# EAGLE library part AK5558 (library cdp)
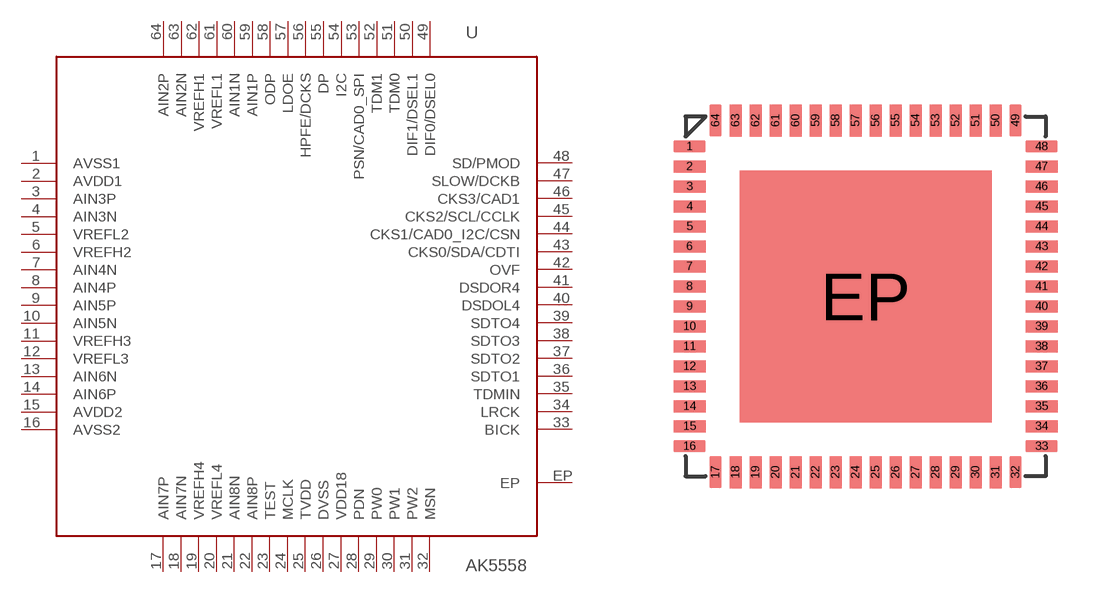
[diagram p44: symbol with the pads of QFN64_EP_AKM; footprint QFN64_EP_AKM]

Designator prefix U

## AK5558  [QFN64_EP_AKM]
1  AVSS1
2  AVDD1
3  AIN3P
4  AIN3N
5  VREFL2
6  VREFH2
7  AIN4N
8  AIN4P
9  AIN5P
10  AIN5N
11  VREFH3
12  VREFL3
13  AIN6N
14  AIN6P
15  AVDD2
16  AVSS2
17  AIN7P
18  AIN7N
19  VREFH4
20  VREFL4
21  AIN8N
22  AIN8P
23  TEST
24  MCLK
25  TVDD
26  DVSS
27  VDD18
28  PDN
29  PW0
30  PW1
31  PW2
32  MSN
33  BICK
34  LRCK
35  TDMIN
36  SDTO1
37  SDTO2
38  SDTO3
39  SDTO4
40  DSDOL4
41  DSDOR4
42  OVF
43  CKS0/SDA/CDTI
44  CKS1/CAD0_I2C/CSN
45  CKS2/SCL/CCLK
46  CKS3/CAD1
47  SLOW/DCKB
48  SD/PMOD
49  DIF0/DSEL0
50  DIF1/DSEL1
51  TDM0
52  TDM1
53  PSN/CAD0_SPI
54  I2C
55  DP
56  HPFE/DCKS
57  LDOE
58  ODP
59  AIN1P
60  AIN1N
61  VREFL1
62  VREFH1
63  AIN2N
64  AIN2P
EP  EP

## Footprint QFN64_EP_AKM (pad centres in mm)
smd 0.8 x 0.3: 1 -4.4,3.75; 2 -4.4,3.25; 3 -4.4,2.75; 4 -4.4,2.25; 5 -4.4,1.75; 6 -4.4,1.25; 7 -4.4,0.75; 8 -4.4,0.25; 9 -4.4,-0.25; 10 -4.4,-0.75; 11 -4.4,-1.25; 12 -4.4,-1.75; 13 -4.4,-2.25; 14 -4.4,-2.75; 15 -4.4,-3.25; 16 -4.4,-3.75; 33 4.4,-3.75; 34 4.4,-3.25; 35 4.4,-2.75; 36 4.4,-2.25; 37 4.4,-1.75; 38 4.4,-1.25; 39 4.4,-0.75; 40 4.4,-0.25; 41 4.4,0.25; 42 4.4,0.75; 43 4.4,1.25; 44 4.4,1.75; 45 4.4,2.25; 46 4.4,2.75; 47 4.4,3.25; 48 4.4,3.75
smd 0.3 x 0.8: 17 -3.75,-4.4; 18 -3.25,-4.4; 19 -2.75,-4.4; 20 -2.25,-4.4; 21 -1.75,-4.4; 22 -1.25,-4.4; 23 -0.75,-4.4; 24 -0.25,-4.4; 25 0.25,-4.4; 26 0.75,-4.4; 27 1.25,-4.4; 28 1.75,-4.4; 29 2.25,-4.4; 30 2.75,-4.4; 31 3.25,-4.4; 32 3.75,-4.4; 49 3.75,4.4; 50 3.25,4.4; 51 2.75,4.4; 52 2.25,4.4; 53 1.75,4.4; 54 1.25,4.4; 55 0.75,4.4; 56 0.25,4.4; 57 -0.25,4.4; 58 -0.75,4.4; 59 -1.25,4.4; 60 -1.75,4.4; 61 -2.25,4.4; 62 -2.75,4.4; 63 -3.25,4.4; 64 -3.75,4.4
smd 6.3 x 6.3: EP 0,0